# Altium footprint library TRANSISTOR-DIODE.PcbLib: 20 footprints (part 1 of 2)
Each footprint in its own frame and in the unit in brackets; x right, y up, seen from the top. Pads: shape width x height; smd on the part's side, far side on the other; paste and mask are expansions set on the pad; w line width, h text height; cw(c..) or ccw(c..) is an arc to the next point about the centre after c.
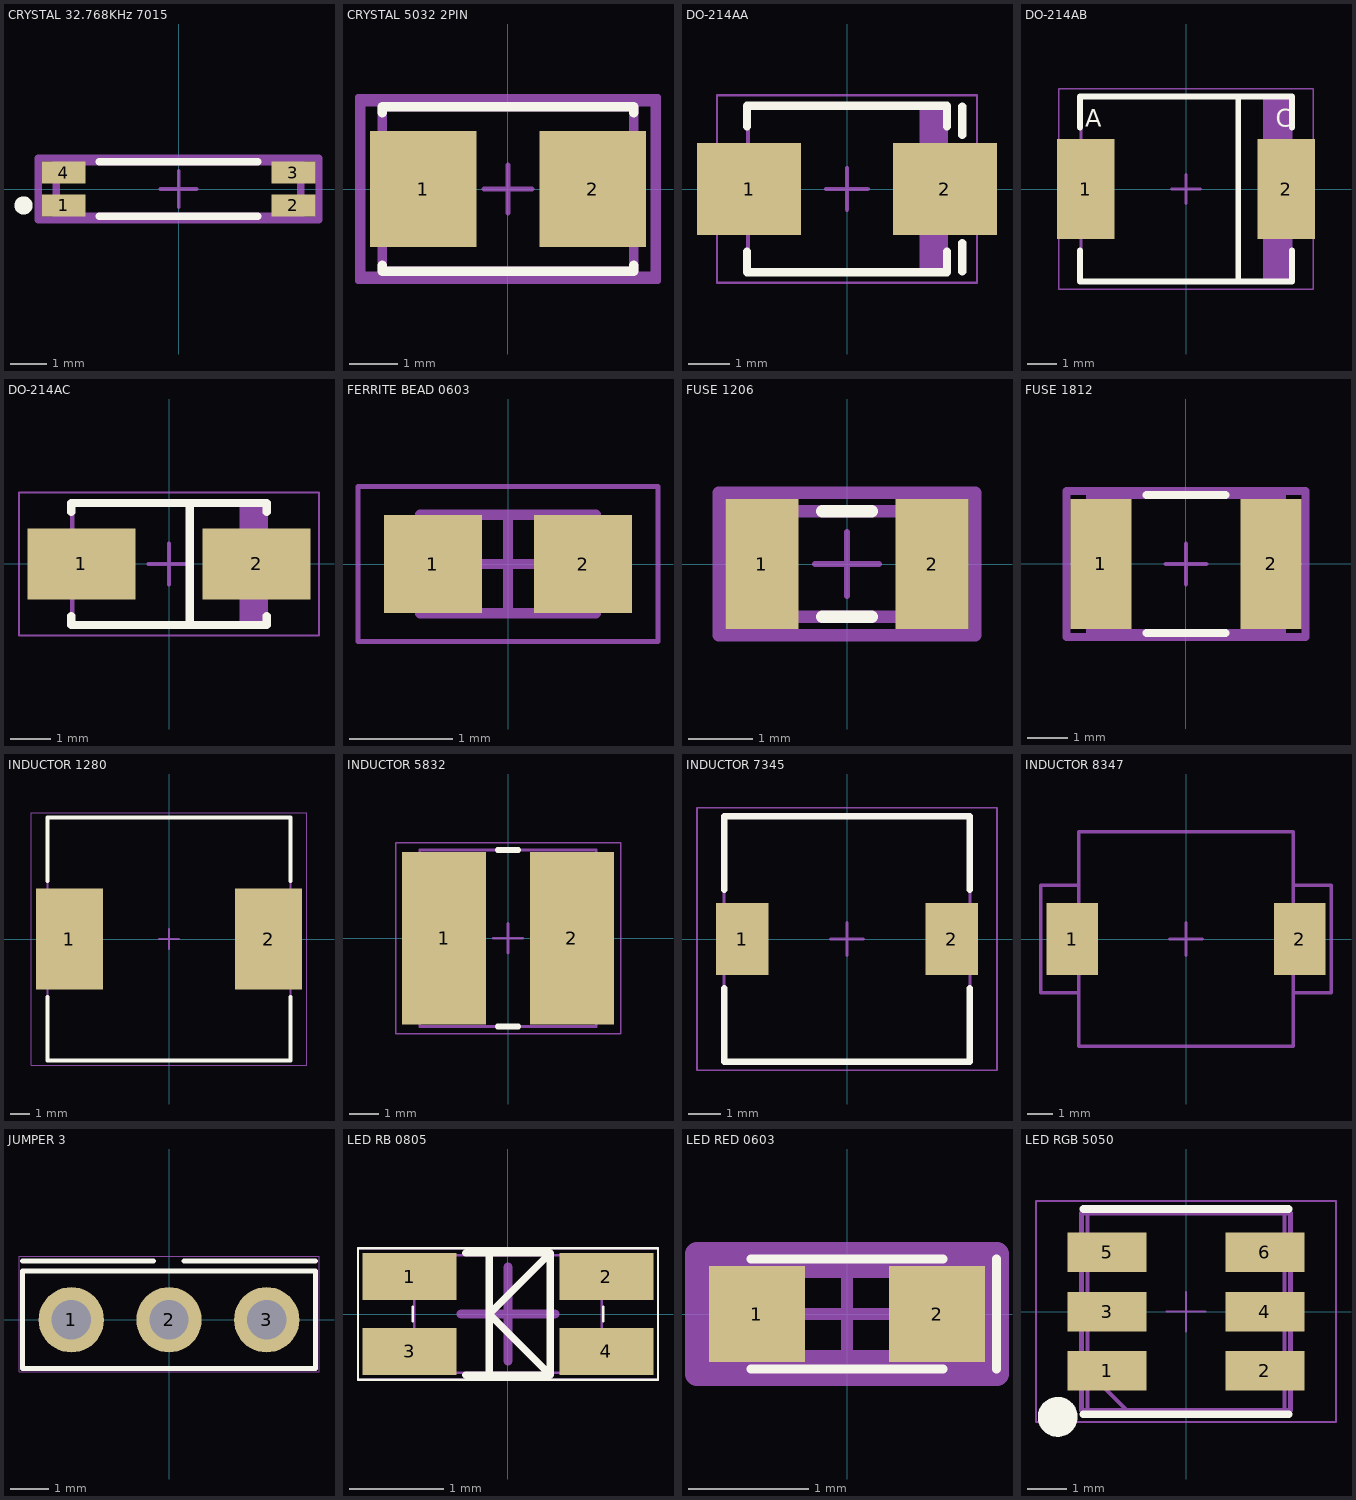
[diagram p0: the footprints below, top view; thin cyan lines are the x and y axes]

## CRYSTAL 32.768KHz 7015 [mm]
pads (4):
  rect 1.2x0.6 smd paste+0 mask+0.05: 1(-3.15,-0.45) 2(3.15,-0.45) 3(3.15,0.45) 4(-3.15,0.45)
Top Overlay:
  circle w0.25: c-4.25,-0.45 r0.125
  lines w0.2: -2.175,-0.75 2.175,-0.75 ; -2.175,0.75 2.175,0.75
Top 3D Body:
  lines w0.2: -3.35,-0.75 3.35,-0.75 3.35,0.75 -3.35,0.75 -3.35,-0.75
Board:
  lines w0.2: -3.85,-0.85 3.85,-0.85 3.85,0.85 -3.85,0.85 -3.85,-0.85
Top Assembly:
  lines w0.2: -3.85,-0.85 3.85,-0.85 3.85,0.85 -3.85,0.85 -3.85,-0.85
  text ".Designator" at 0,0.188 h1
Top Component Center:
  lines w0.1: -0.5,0 0.5,0 ; 0,-0.5 0,0.5
3D body "Crys_Abracon_ABS13-32_768KHZ-T_eec.STEP": height 0.25, standoff 0, extent -3.85,-0.85 3.85,0.85

## CRYSTAL 5032 2PIN [mm]
pads (2):
  rect 2.2x2.4 smd paste+0: 1(-1.75,0) 2(1.75,0)
Top Overlay:
  lines w0.2: -2.6,-1.575 -2.6,-1.7 2.6,-1.7 2.6,-1.575 ; -2.6,1.575 -2.6,1.7 2.6,1.7 2.6,1.575
Top 3D Body:
  lines w0.2: -2.6,-1.7 -2.6,1.7 2.6,1.7 2.6,-1.7 -2.6,-1.7
Board:
  lines w0.2: -3.048,-1.8 3.048,-1.8 3.048,1.8 -3.048,1.8 -3.048,-1.8
Top Assembly:
  lines w0.2: -3.048,-1.8 3.048,-1.8 3.048,1.8 -3.048,1.8 -3.048,-1.8
  text ".Designator" at 0,0.188 h1
Mechanical 15:
  lines w0.127: -3.1,-1.9 3.1,-1.9 3.1,1.9 -3.1,1.9 -3.1,-1.9
Top Component Center:
  lines w0.1: -0.5,0 0.5,0 ; 0,-0.5 0,0.5
3D body "Crys_Abracon_ABM3-25_000MHZ-B2-T_eec.STEP": height 0.25, standoff 0, extent -3.1,-1.8 3.1,1.8

## DO-214AA [mm] "Molded Diode, 2-Leads, Body 4.40x3.63mm, IPC Medium Density"
height 2.65
pads (2):
  rect 2.5x2.2 smd: 1(-2.35,0) 2(2.35,0)
Top Overlay:
  lines w0.2: -2.4,-1.5 -2.4,-2 2.4,-2 2.4,-1.5 ; -2.4,1.5 -2.4,2 2.4,2 2.4,1.5 ; 2.769,-1.981 2.769,-1.295 ; 2.769,1.295 2.769,1.981
Top Courtyard:
  lines w0.05: -3.125,-2.25 -3.125,2.25 3.125,2.25 3.125,-2.25 -3.125,-2.25
  lines w0.1: -0.5,0 0.5,0 ; 0,-0.5 0,0.5
Top Assembly:
  rectangle: 1.736,-1.975 2.375,1.975
  lines w0.1: -2.375,-1.975 -2.375,1.975 2.375,1.975 2.375,-1.975 -2.375,-1.975
3D body "DO-214AA.step": height 2.65, standoff 0, extent -2.595,-1.975 2.595,1.975

## DO-214AB [mm] "Molded Diode, 2-Leads, Body 6.88x5.90mm, IPC Medium Density"
height 2.65
pads (2):
  rect 1.96x3.39 smd: 1(-3.405,0) 2(3.405,0)
Top Overlay:
  lines w0.2: -3.6,-2.095 -3.6,-3.15 3.6,-3.15 3.6,-2.095 ; -3.6,2.095 -3.6,3.15 3.6,3.15 3.6,2.095 ; 1.778,-3.048 1.778,3.048
  text "C" at 3.048,1.912 h1.02
  text "A" at -3.429,1.905 h1.02
Mechanical 13:
  rectangle: 2.613,-3.125 3.575,3.125
  lines w0.1: -3.575,-3.125 -3.575,3.125 3.575,3.125 3.575,-3.125 -3.575,-3.125
Mechanical 15:
  lines w0.05: -4.325,-3.4 -4.325,3.4 4.325,3.4 4.325,-3.4 -4.325,-3.4
  lines w0.1: -0.5,0 0.5,0 ; 0,-0.5 0,0.5
3D body "DIOM6959X26N.step": height 2.65, standoff 0, extent -3.795,-3.125 3.795,3.125

## DO-214AC [mm] "Molded Diode, 2-Leads, Body 4.38x2.73mm, IPC Medium Density"
height 2.7
pads (2):
  rect 2.65x1.75 smd: 1(-2.15,0) 2(2.15,0)
Top Overlay:
  lines w0.2: -2.4,-1.275 -2.4,-1.5 2.4,-1.5 2.4,-1.275 ; -2.4,1.275 -2.4,1.5 2.4,1.5 2.4,1.275 ; 0.508,-1.397 0.508,1.397
Mechanical 13:
  rectangle: 1.736,-1.475 2.375,1.475
  lines w0.1: -2.375,-1.475 2.375,-1.475 2.375,1.475 -2.375,1.475 -2.375,-1.475
Mechanical 15:
  lines w0.05: -3.683,-1.75 3.683,-1.75 3.683,1.75 -3.683,1.75 -3.683,-1.75
  lines w0.1: -0.5,0 0.5,0 ; 0,-0.5 0,0.5
3D body "DIOM4427X27N.step": height 2.7, standoff 0, extent -2.595,-1.475 2.595,1.475

## FERRITE BEAD 0603 [mm] "Chip FB 0603"
height 0.55
pads (2):
  rect 0.95x0.95 smd: 1(-0.725,0) 2(0.725,0)
Mechanical 13:
  lines w0.1: -0.85,-0.475 0.85,-0.475 0.85,0.475 -0.85,0.475 -0.85,-0.475
Mechanical 15:
  lines w0.05: -1.45,-0.75 1.45,-0.75 1.45,0.75 -1.45,0.75 -1.45,-0.75
  lines w0.1: -0.475,0 0.475,0 ; 0,-0.475 0,0.475
3D body "Resistor_0603_Text.step": height 0.47, standoff 0.01, extent -0.8,-0.4 0.8,0.4

## FUSE 1206 [mil]
pads (2):
  rect 45x80 smd paste+0 mask+0: 1(-52.5,0) 2(52.5,0)
Top Overlay:
  lines w7.87: -15.24,-32.5 15.24,-32.5 ; -15.24,32.5 15.24,32.5
Top 3D Body:
  lines w7.87: -65,-32.5 -65,32.5 65,32.5 65,-32.5 -65,-32.5
Top Courtyard:
  lines w7.87: -78.94,-43.94 -78.94,43.94 78.94,43.94 78.94,-43.94 -78.94,-43.94
Top Assembly:
  lines w7.87: -78.94,-43.94 -78.94,43.94 78.94,43.94 78.94,-43.94 -78.94,-43.94
  text ".Designator" at 0,7.4 h39.37
Top Component Center:
  lines w3.94: -19.68,0 19.68,0 ; 0,-19.68 0,19.68
3D body "fuse_silicon_1206L.step": height 19.68, standoff 0, extent -68.9,-36.22 68.9,36.22

## FUSE 1812 [mm]
pads (2):
  rect 1.5x3.2 smd paste+0 mask+0: 1(-2.1,0) 2(2.1,0)
Top Overlay:
  lines w0.2: -0.975,-1.705 0.975,-1.705 ; -0.975,1.705 0.975,1.705
Top 3D Body:
  lines w0.2: -2.365,-1.705 -2.365,1.705 2.365,1.705 2.365,-1.705 -2.365,-1.705
Top Courtyard:
  lines w0.2: -2.95,-1.805 -2.95,1.805 2.95,1.805 2.95,-1.805 -2.95,-1.805
Top Assembly:
  lines w0.2: -2.95,-1.805 -2.95,1.805 2.95,1.805 2.95,-1.805 -2.95,-1.805
  text ".Designator" at 0,0.188 h1
Top Component Center:
  lines w0.1: -0.5,0 0.5,0 ; 0,-0.5 0,0.5
3D body "Fuse_Bourns_MF-MSMF050-2_eec.STEP": height 0.25, standoff 0, extent -2.95,-1.805 2.95,1.805

## INDUCTOR 1280 [mm] "Precision Wire Wound Inductor, 2-Leads, Body 12.00x12.00mm, IPC Medium Density"
height 8
pads (2):
  rect 3.4x5.1 smd: 1(-5.05,0) 2(5.05,0)
Top Overlay:
  lines w0.2: -6.15,-2.95 -6.15,-6.15 6.15,-6.15 6.15,-2.95 ; -6.15,2.95 -6.15,6.15 6.15,6.15 6.15,2.95
Mechanical 13:
  lines w0.1: -6.15,-6.15 -6.15,6.15 6.15,6.15 6.15,-6.15 -6.15,-6.15
Mechanical 15:
  lines w0.05: -6.975,-6.4 -6.975,6.4 6.975,6.4 6.975,-6.4 -6.975,-6.4
  lines w0.1: -0.5,0 0.5,0 ; 0,-0.5 0,0.5
Multi-Layer:
  pour cut-out: -7.01,6.426 7.01,6.426 7.01,-6.426 -7.01,-6.426
3D body "DR125.STEP": height 6, standoff 0, extent -6.25,-6.25 6.25,6.25

## INDUCTOR 5832 [mm] "Precision Wire Wound Inductor, 2-Leads, Body 5.70x5.70mm, IPC Medium Density"
height 3
pads (2):
  rect 2.85x5.85 smd: 1(-2.175,0) 2(2.175,0)
Top Overlay:
  lines w0.2: -0.35,-3 0.35,-3 ; -0.35,3 0.35,3
Mechanical 13:
  lines w0.1: -3,-3 3,-3 3,3 -3,3 -3,-3
Mechanical 15:
  lines w0.05: -3.825,-3.25 3.825,-3.25 3.825,3.25 -3.825,3.25 -3.825,-3.25
  lines w0.1: -0.5,0 0.5,0 ; 0,-0.5 0,0.5
Multi-Layer:
  pour cut-out: -3.912,3.302 3.886,3.302 3.886,-3.353 -3.912,-3.353
3D body "INDP5757X30N.step": height 3.1, standoff 0, extent -2.95,-2.85 2.95,2.85

## INDUCTOR 7345 [mm] "Precision Wire Wound Inductor, 2-Leads, Body 7.30x7.30mm, IPC Medium Density"
height 4.5
pads (2):
  rect 1.6x2.2 smd: 1(-3.2,0) 2(3.2,0)
Top Overlay:
  lines w0.2: -3.75,-1.5 -3.75,-3.75 3.75,-3.75 3.75,-1.5 ; -3.75,1.5 -3.75,3.75 3.75,3.75 3.75,1.5
Mechanical 13:
  lines w0.1: -3.75,-3.75 3.75,-3.75 3.75,3.75 -3.75,3.75 -3.75,-3.75
Mechanical 15:
  lines w0.05: -4.575,-4 4.575,-4 4.575,4 -4.575,4 -4.575,-4
  lines w0.1: -0.5,0 0.5,0 ; 0,-0.5 0,0.5
3D body "DR73.STEP": height 3.55, standoff 0, extent -3.8,-3.8 3.8,3.8

## INDUCTOR 8347 [mm]
pads (2):
  rect 2x2.8 smd: 1(-4.4,0) 2(4.4,0)
Top 3D Body:
  lines w0.127: -4.15,-4.15 4.15,-4.15 4.15,4.15 -4.15,4.15 -4.15,-4.15
Mechanical 15:
  lines w0.127: -5.613,-2.075 -5.613,2.075 -4.15,2.075 -4.15,4.15 4.15,4.15 4.15,2.075 5.613,2.075 5.613,-2.075 4.15,-2.075 4.15,-4.15 -4.15,-4.15 -4.15,-2.075 -5.613,-2.075
Top Component Center:
  lines w0.127: -0.635,0 0.635,0 ; 0,-0.635 0,0.635
Multi-Layer:
  pour cut-out: -4.216,4.216 4.216,4.216 4.216,-4.216 -4.216,-4.216
3D body: height 4.68, standoff 0, extent -4.15,-4.15 4.15,4.15
3D body: height 3.03, standoff 0, extent -4.354,-1.27 -3.846,1.27
3D body: height 4.7, standoff 0, extent -4.088,-4.097 4.1,4.097
3D body: height 3.03, standoff 0, extent 3.846,-1.27 4.354,1.27

## JUMPER 3 [mm]
pads (3):
  round 1.7 hole 1.02: 1(-2.54,0) 2(0,0) 3(2.54,0)
Top Overlay:
  lines w0.127: -3.81,1.524 -0.406,1.524 ; 0.39,1.524 3.81,1.524 ; -3.81,-1.27 3.81,-1.27 3.81,1.27 -3.81,1.27 -3.81,-1.27
Mechanical 15:
  lines w0.025: -3.9,-1.35 -3.9,1.65 3.9,1.65 3.9,-1.35 -3.9,-1.35
3D body: height 7, standoff -1, extent 2.134,-0.406 2.93,0.392
3D body: height 7, standoff -1, extent -0.406,-0.406 0.39,0.392
3D body: height 7, standoff -1, extent -2.946,-0.406 -2.15,0.392
3D body: height 1.5, standoff 0, extent 1.27,-1.27 3.81,1.27
3D body: height 1.5, standoff 0, extent -1.27,-1.27 1.27,1.27
3D body: height 1.5, standoff 0, extent -3.81,-1.27 -1.27,1.27
3D body "142270-3--3DModel-STEP-1.STEP": height 7.63, standoff 1.6, extent -1.22,-1.27 3.76,1.17

## LED RB 0805 [mm]
pads (4):
  rect 1x0.5 smd mask+0.05: 1(-1.05,0.4) 2(1.05,0.4) 3(-1.05,-0.4) 4(1.05,-0.4)
Top Overlay:
  lines w0.025: -1.016,-0.076 -1.016,0.076 ; 1.016,-0.076 1.016,0.076 ; -1.6,-0.7 1.6,-0.7 1.6,0.7 -1.6,0.7 -1.6,-0.7
  lines w0.076: -0.45,-0.65 0.45,-0.65 ; -0.45,0.65 0.45,0.65 ; -0.2,-0.6 -0.2,0.65 ; 0.45,-0.65 -0.2,0 0.45,0.65 ; 0.45,-0.65 0.45,0.65
Top 3D Body:
  lines w0.025: -1,-0.625 1,-0.625 1,0.625 -1,0.625 -1,-0.625
Top Assembly:
  lines w0.025: -1.6,-0.7 1.6,-0.7 1.6,0.7 -1.6,0.7 -1.6,-0.7
Mechanical 15:
  lines w0.025: -1.6,-0.7 1.6,-0.7 1.6,0.7 -1.6,0.7 -1.6,-0.7
Top Component Center:
  lines w0.1: -0.5,0 0.5,0 ; 0,-0.5 0,0.5
3D body: height 1.21, standoff 0.5, extent -0.5,-0.25 -0.3,-0.05
3D body: height 1.21, standoff 0.5, extent -0.5,0.05 -0.3,0.25
3D body: height 1, standoff 0.1, extent -1,-0.625 1,0.625
3D body: height 1.2, standoff 0.12, extent -0.75,-0.375 0.75,0.375

## LED RED 0603 [mm]
pads (2):
  rect 0.8x0.8 smd paste+0 mask+0: 1(-0.75,0) 2(0.75,0)
Top Overlay:
  lines w0.076: -0.8,-0.457 0.8,-0.457 ; -0.8,0.457 0.8,0.457 ; 1.245,-0.457 1.245,0.457
Top 3D Body:
  lines w0.2: -0.8,-0.4 0.8,-0.4 0.8,0.4 -0.8,0.4 -0.8,-0.4
Top Courtyard:
  lines w0.2: -1.25,-0.5 -1.25,0.5 1.25,0.5 1.25,-0.5 -1.25,-0.5
Top Assembly:
  lines w0.2: -1.25,-0.5 -1.25,0.5 1.25,0.5 1.25,-0.5 -1.25,-0.5
  text ".Designator" at 0,0.188 h1
Top Component Center:
  lines w0.1: -0.5,0 0.5,0 ; 0,-0.5 0,0.5
3D body "Diode_Osram_Opto_LS_Q976-NR-1_eec.STEP": height 0.25, standoff 0, extent -1.25,-0.5 1.25,0.5

## LED RGB 5050 [mm] "SMT Full-color TOP LED Waterclear, body 5x5mm"
height 1.8
pads (6):
  rect 2x1 smd: 1(-2,-1.5) 2(2,-1.5) 3(-2,0) 4(2,0) 5(-2,1.5) 6(2,1.5)
Top Overlay:
  circle w0.5: c-3.251,-2.667 r0.254
  lines w0.2: -2.6,-2.6 2.6,-2.6 ; -2.6,2.6 2.6,2.6
Top 3D Body:
  lines w0.127: -2.65,-2.5 2.65,-2.5 2.65,2.5 -2.65,2.5 -2.65,-2.5
Top Courtyard:
  lines w0.05: -0.5,0 0.5,0 ; 0,-0.5 0,0.5 ; -3.8,-2.8 3.8,-2.8 3.8,2.8 -3.8,2.8 -3.8,-2.8
Top Designator:
  text ".Designator" at -4.998,-0.333 h1
Top Component Outline:
  lines w0.1: -2.5,-1.5 -1.5,-2.5 ; -2.5,-2.5 2.5,-2.5 2.5,2.5 -2.5,2.5 -2.5,-2.5
3D body "150505M1xxx.stp": height 1.5, standoff 0.02, extent -2.7,-2.5 2.7,2.5